# EAGLE library part IR4427 (library user)
デュアルローサイドゲートドライバ
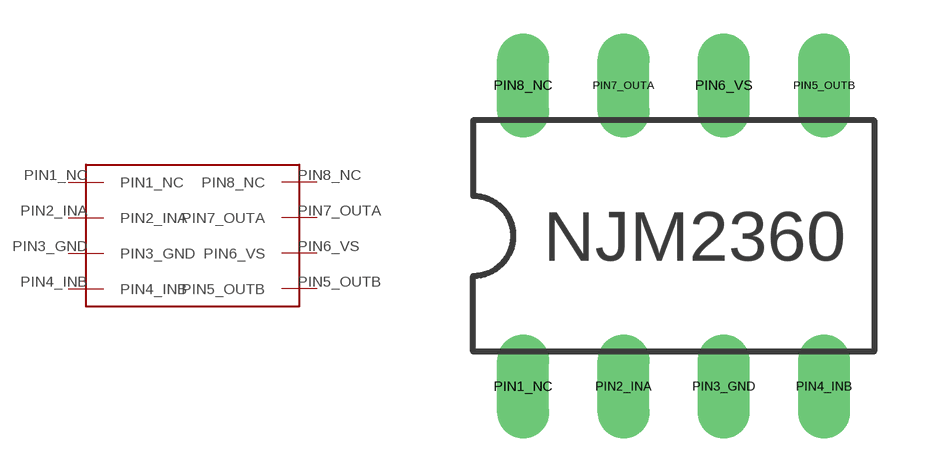
[diagram p5: symbol with the pads of IR4427; footprint IR4427]

Designator prefix -

## IR4427  [IR4427]
PIN1_NC  PIN1_NC
PIN2_INA  PIN2_INA
PIN3_GND  PIN3_GND
PIN4_INB  PIN4_INB
PIN5_OUTB  PIN5_OUTB
PIN6_VS  PIN6_VS
PIN7_OUTA  PIN7_OUTA
PIN8_NC  PIN8_NC

## Footprint IR4427 (pad centres in mm)
Dual In Line Package
drill 0.813 long: PIN1_NC -3.81,-3.81; PIN2_INA -1.27,-3.81; PIN3_GND 1.27,-3.81; PIN4_INB 3.81,-3.81; PIN5_OUTB 3.81,3.81; PIN6_VS 1.27,3.81; PIN7_OUTA -1.27,3.81; PIN8_NC -3.81,3.81